# Altium footprint library SebVLibr.PcbLib: 85 footprints (part 6 of 6)
Each footprint in its own frame and in the unit in brackets; x right, y up, seen from the top. Pads: shape width x height; smd on the part's side, far side on the other; paste and mask are expansions set on the pad; w line width, h text height; cw(c..) or ccw(c..) is an arc to the next point about the centre after c.
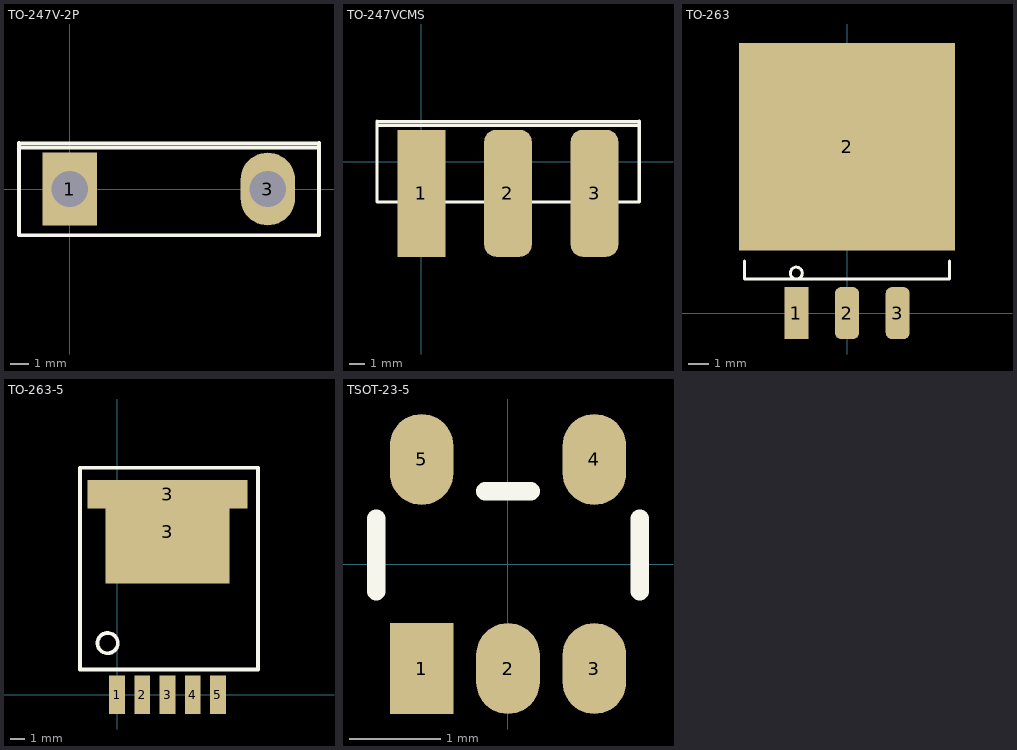
[diagram p5: the footprints below, top view; thin cyan lines are the x and y axes]

## TO-247V-2P [mm]
pads (2):
  rect 3x4 hole 2: 1(0,0)
  oval 3x4 hole 2: 3(10.9,0)
Top Overlay:
  lines w0.2: -2.794,2.286 13.716,2.286 ; -2.794,2.527 13.716,2.527 ; -2.794,2.54 -2.794,-2.54 13.716,-2.54 13.716,2.54
3D body: height 24.03, standoff -12.03, extent -2.159,-2.565 13.081,2.032

## TO-247VCMS [mm]
pads (3):
  rect 3x8 smd: 1(0,-2)
  rrect50% 3x8 smd: 2(5.45,-2) 3(10.9,-2)
Top Overlay:
  lines w0.2: -2.794,2.286 13.716,2.286 ; -2.794,2.527 13.716,2.527 ; -2.794,2.54 -2.794,-2.54 13.716,-2.54 13.716,2.54

## TO-263 [mm]
pads (4):
  rect 1.2x2.6 smd: 1(-2.54,0)
  rrect50% 1.2x2.6 smd: 2(0,0) 3(2.54,0)
  rect 10.8x10.41 smd: 2(0,8.325)
Top Overlay:
  circle w0.15: c-2.54,2 r0.3
  lines w0.15: -5.13,2.6 -5.13,1.7 5.13,1.7 5.13,2.6
3D body: height 4.88, standoff 0.08, extent -5,-1.18 5,14.49

## TO-263-5 [mm]
pads (7):
  rect 1.07x2.6 smd: 1(0,0) 2(1.7,0) 3(3.4,0) 4(5.1,0) 5(6.8,0)
  rect 8.33x6.99 smd: 3(3.4,10.975)
  rect 10.8x1.91 smd: 3(3.4,13.515)
Top Overlay:
  circle w0.254: c-0.635,3.475 r0.684
  lines w0.254: -2.5,1.7 -2.5,15.3 9.5,15.3 9.5,1.7 -2.5,1.7

## TSOT-23-5 [mm]
pads (5):
  rect 0.7x1 smd mask+0.01: 1(-0.95,-1.15)
  oval 0.7x1 smd mask+0.01: 2(0,-1.15) 3(0.95,-1.15)
  oval 0.7x1 smd: 4(0.95,1.15) 5(-0.95,1.15)
Top Overlay:
  lines w0.2: -1.45,-0.3 -1.45,0.5 ; -0.25,0.8 0.25,0.8 ; 1.45,-0.3 1.45,0.5
3D body: height 0.94, standoff -0.02, extent -1.45,-1.577 1.449,1.614